# EAGLE library part BOSH-BMP280 (library G1Tech-Sensors)
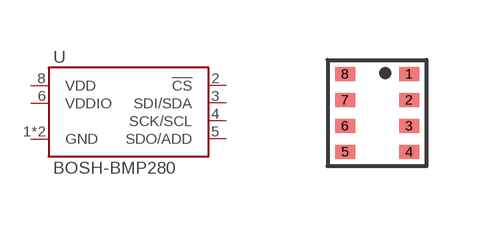
[diagram p2: symbol with the pads of LGA-2.0X2.5; footprint LGA-2.0X2.5]

Designator prefix U

## BOSH-BMP280  [LGA-2.0X2.5]
1  GND
2  !CS
3  SDI/SDA
4  SCK/SCL
5  SDO/ADD
6  VDDIO
7  GND
8  VDD

## Footprint LGA-2.0X2.5 (pad centres in mm)
https://ae-bst.resource.bosch.com/media/_tech/media/datasheets/BST-BMP280-DS001.pdf
smd 0.5 x 0.35: 1 0.8,0.975; 2 0.8,0.325; 3 0.8,-0.325; 4 0.8,-0.975; 5 -0.8,-0.975; 6 -0.8,-0.325; 7 -0.8,0.325; 8 -0.8,0.975